# Altium schematic symbol library MH_0205.SchLib: 1 symbol
Pins are listed as number, name and electrical type; pins without a type are passive.

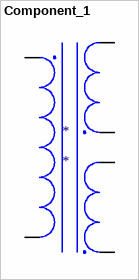
[diagram p0: symbol Component_1]

## Component_1
designator *
pins: 106, 107, 108, 109, 110, 111